# EAGLE library part HT16K33BRD (library Parts)
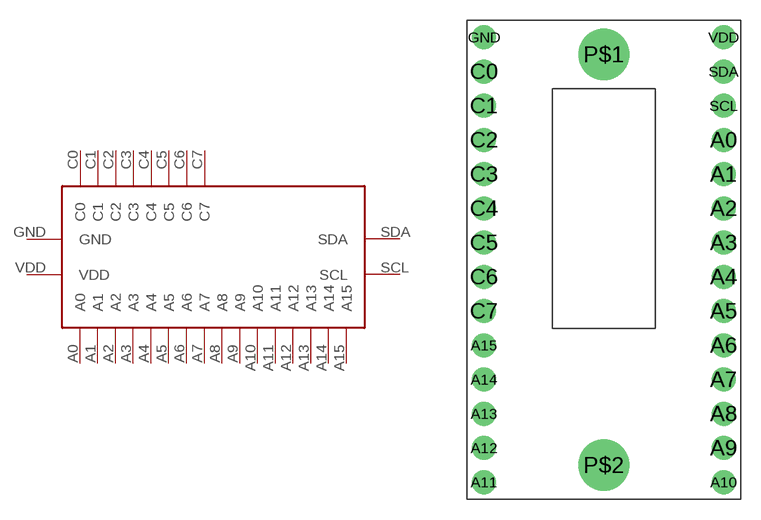
[diagram p1: symbol with the pads of HT16K33BRKOUT; footprint HT16K33BRKOUT]

Designator prefix -

## HT16K33BRD  [HT16K33BRKOUT]
A0  A0
A1  A1
A2  A2
A3  A3
A4  A4
A5  A5
A6  A6
A7  A7
A8  A8
A9  A9
A10  A10
A11  A11
A12  A12
A13  A13
A14  A14
A15  A15
C0  C0
C1  C1
C2  C2
C3  C3
C4  C4
C5  C5
C6  C6
C7  C7
GND  GND
SCL  SCL
SDA  SDA
VDD  VDD

## Footprint HT16K33BRKOUT (pad centres in mm)
drill 0.8 pad 1.778: A0 17.78,25.4; A1 17.78,22.86; A2 17.78,20.32; A3 17.78,17.78; A4 17.78,15.24; A5 17.78,12.7; A6 17.78,10.16; A7 17.78,7.62; A8 17.78,5.08; A9 17.78,2.54; A10 17.78,0; A11 0,0; A12 0,2.54; A13 0,5.08; A14 0,7.62; A15 0,10.16; C0 0,30.48; C1 0,27.94; C2 0,25.4; C3 0,22.86; C4 0,20.32; C5 0,17.78; C6 0,15.24; C7 0,12.7; GND 0,33.02; SCL 17.78,27.94; SDA 17.78,30.48; VDD 17.78,33.02
drill 0.8 pad 3.81: P$1 8.89,31.75; P$2 8.89,1.27